# EAGLE library part DRV8833 (library texas)
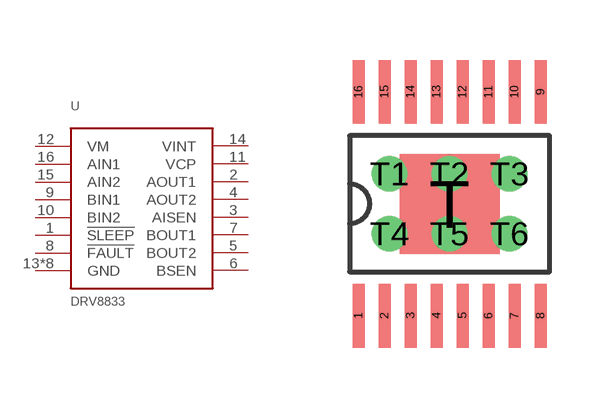
[diagram p0: symbol with the pads of HTSSOP16; footprint HTSSOP16]

Designator prefix -

## DRV8833  [HTSSOP16]
1  !SLEEP!
2  AOUT1  out
3  AISEN
4  AOUT2  out
5  BOUT2  out
6  BSEN
7  BOUT1  out
8  !FAULT!
9  BIN1  in
10  BIN2  in
11  VCP
12  VM  pwr
13  GND  pwr
14  VINT
15  AIN2  in
16  AIN1
T  GND  pwr
T1  GND  pwr
T2  GND  pwr
T3  GND  pwr
T4  GND  pwr
T5  GND  pwr
T6  GND  pwr

## Footprint HTSSOP16 (pad centres in mm)
smd 0.3 x 1.6: 1 -2.275,-2.8; 2 -1.625,-2.8; 3 -0.975,-2.8; 4 -0.325,-2.8; 5 0.325,-2.8; 6 0.975,-2.8; 7 1.625,-2.8; 8 2.275,-2.8; 9 2.275,2.8; 10 1.625,2.8; 11 0.975,2.8; 12 0.325,2.8; 13 -0.325,2.8; 14 -0.975,2.8; 15 -1.625,2.8; 16 -2.275,2.8
smd 2.5 x 2.5: T 0,0
drill 0.381: T1 -1.5,0.75; T2 0,0.75; T3 1.5,0.75; T4 -1.5,-0.75; T5 0,-0.75; T6 1.5,-0.75